# Altium footprint library 除臭.PcbLib: 14 footprints
Each footprint in its own frame and in the unit in brackets; x right, y up, seen from the top. Pads: shape width x height; smd on the part's side, far side on the other; paste and mask are expansions set on the pad; w line width, h text height; cw(c..) or ccw(c..) is an arc to the next point about the centre after c.
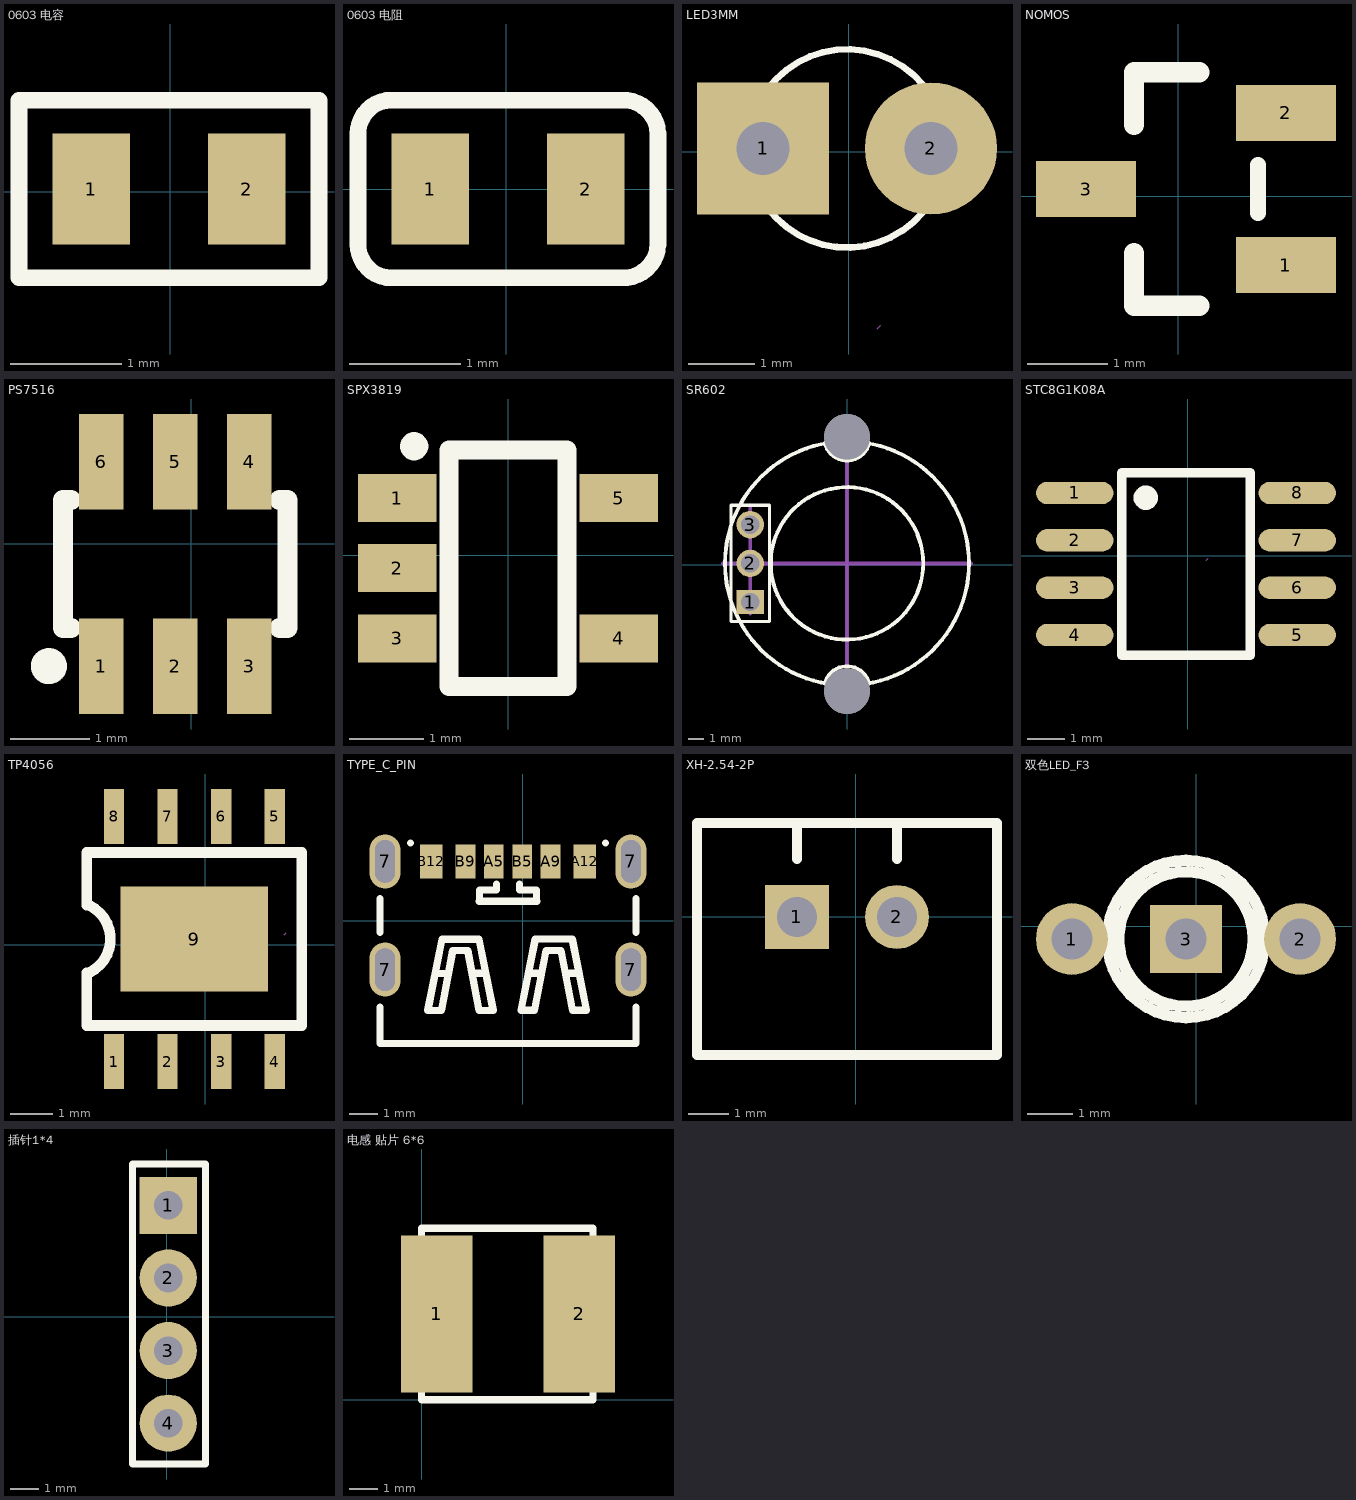
[diagram p0: the footprints below, top view; thin cyan lines are the x and y axes]

## 0603 电容 [mm]
pads (2):
  rect 0.7x1 smd: 1(-0.711,0.025) 2(0.689,0.025)
Top Overlay:
  lines w0.15: -1.361,-0.775 -1.361,0.825 1.339,0.825 1.339,-0.775 -1.361,-0.775
3D body "User Library-0603 SMD Capacitor.STEP": height 0.3, standoff 0, extent -0.789,-0.381 0.811,0.419

## 0603 电阻 [mm]
pads (2):
  rect 0.7x1 smd: 1(-0.686,0) 2(0.714,0)
Top Overlay:
  lines w0.15: 1.364,0.475 1.364,-0.5 cw(c1.052,-0.487) 1.039,-0.8 -1.036,-0.8 cw(c-1.036,-0.5) -1.336,-0.5 -1.336,0.5 cw(c-1.036,0.5) -1.036,0.8 1.039,0.8 cw(c1.052,0.487) 1.364,0.5
3D body "User Library-0603 SMD Resistor.STEP": height 0.3, standoff 0, extent -0.8,-0.4 0.8,0.4

## LED3MM [mm]
pads (2):
  rect 2x2 hole 0.8: 1(-1.297,0.052)
  round 2 hole 0.8: 2(1.243,0.052)
Top Overlay:
  circle w0.1: c-0.027,0.052 r1.5
Mechanical 15:
  lines w0.003: 0.43,-2.676 0.481,-2.625
3D body: height 7.05, standoff 6.95, extent -0.305,-0.254 0.284,0.345
3D body: height 12.5, standoff 9.5, extent -1.592,-1.626 1.397,1.369
3D body: height 7.05, standoff 6.95, extent -0.33,-0.218 0.258,0.381
3D body: height 7.2, standoff 7, extent -1.591,-1.623 1.397,1.372
3D body: height 11, standoff 7, extent -1.591,-1.623 1.397,1.372

## NOMOS [mm]
pads (3):
  rect 1.25x0.7 smd: 1(1.346,-0.862) 2(1.346,1.038) 3(-1.153,0.088)
Top Overlay:
  lines w0.2: 0.997,-0.212 0.997,0.388
  lines w0.254: -0.553,-0.712 -0.553,-1.372 0.262,-1.372 ; 0.262,1.548 -0.553,1.548 ; -0.553,0.888 -0.553,1.548 ; -0.553,0.888 -0.553,1.548 ; -0.553,0.888 -0.553,1.548
3D body "SOT-23-3.STEP": height 1.2, standoff 0, extent -1.3,-1.45 1.5,1.45

## PS7516 [mil]
pads (6):
  rect 22.2x47.7 smd: 1(-45,-61.15) 2(-8,-61.15) 3(29,-61.15) 4(29,40.85) 5(-8,40.85) 6(-45,40.85)
Top Overlay:
  circle w10: c-71,-61.15 r4
  lines w10: -60,-42.15 -64,-42.15 -64,21.85 -60,21.85 ; 44,-42.15 48,-42.15 48,21.85 44,21.85
3D body "User Library-SOT-23-6.STEP": height 42.61, standoff -0.39, extent -62.5,-58.5 47.5,37

## SPX3819 [mil]
pads (5):
  rect 41.8x25.6 smd: 1(-59.1,30.39) 2(-59.1,-7.01) 3(-59.1,-44.41) 4(59,-44.41) 5(59,30.39)
Top Overlay:
  circle w10: c-50.04,57.99 r2.5
  lines w10: -31.54,-70 -31.54,55.98 31.45,55.98 31.45,-70 -31.54,-70
3D body "User Library-SOT23-5.STEP": height 42.79, standoff -0.51, extent -55.25,-64.07 55,50.08

## SR602 [mm]
height 10
pads (5):
  rect 1.8x1.575 hole 1.2: 1(-6.35,-2.437)
  round 1.8 hole 1.2: 2(-6.35,0.103) 3(-6.35,2.643)
  round 3 hole 3 unplated: ""(0,-8.279) ""(0,8.402)
Top Overlay:
  circle w0.254: c0,0.103 r8
  circle w0.254: c0,0.103 r5
  lines w0.203: -7.62,-3.707 -7.62,-1.802 -7.62,3.913 -5.08,3.913 -5.08,-3.707 -7.62,-3.707
  lines w0.254: -1.456,-7.788 cw(c0,-8.147) 1.456,-7.788 ; -1.456,7.994 ccw(c0,8.353) 1.456,7.994
Mechanical 15:
  lines w0.254: -8.128,0.103 8.128,0.103 ; -6.35,-3.199 -6.35,3.913 ; 0,-6.755 0,6.961
3D body: height 18.5, standoff 8.5, extent -4.988,-4.997 5,4.997
3D body: height 13.5, standoff 8.5, extent -5,-5 5,5
3D body "User Library-HDR1x3.step": height 12.31, standoff 0.12, extent -7.62,-3.683 -5.08,3.937
3D body: height 11, standoff -1, extent -2.54,5.865 2.54,10.939
3D body: height 11, standoff -1, extent -2.54,-10.939 2.54,-5.865
3D body: height 9.5, standoff 8.5, extent -8.025,-8 7.975,8
3D body "RM254_3pin.STEP": height 6.02, standoff -3.1, extent -7.722,-3.734 -5.182,3.886

## STC8G1K08A [mm]
pads (8):
  oval 2.078x0.6 smd: 1(-3.025,1.69) 2(-3.025,0.42) 3(-3.025,-0.85) 4(-3.025,-2.12) 5(2.944,-2.12) 6(2.944,-0.85) 7(2.944,0.42) 8(2.944,1.69)
Top Overlay:
  circle w0.4: c-1.12,1.563 r0.127
  lines w0.254: -1.762,-2.667 -1.762,2.233 1.688,2.233 1.688,-2.667 -1.762,-2.667
Mechanical 15:
  lines w0.003: 0.506,-0.115 0.556,-0.065
3D body "SW3DPS-SO-8 (PIC12FXXX)-DEFAULT.STEP": height 1.55, standoff -0.05, extent -2.995,-2.704 2.995,2.196

## TP4056 [mm]
pads (9):
  rect 0.48x1.3 smd: 1(-2.167,-2.77) 2(-0.897,-2.77) 3(0.373,-2.77) 4(1.643,-2.77) 5(1.643,3.046) 6(0.373,3.046) 7(-0.897,3.046) 8(-2.167,3.046)
  rect 3.5x2.5 smd: 9(-0.262,0.138)
Top Overlay:
  lines w0.254: -2.811,-0.662 -2.811,-1.912 2.288,-1.912 2.288,2.188 -2.811,2.188 -2.811,0.938 ; -2.761,-0.662 ccw(c-3.137,0.138) -2.761,0.938
Mechanical 15:
  lines w0.003: 1.872,0.24 1.923,0.291
3D body "SW3DPS-SO-8 (PIC12FXXX)-DEFAULT.STEP": height 1.55, standoff -0.05, extent -2.741,-2.868 2.159,3.122

## TYPE_C_PIN [mm]
pads (10):
  oval 1.1x1.899 hole 0.7 slot 1.5 at 90 deg: 7(-4.838,-1.72) 7(-4.838,2.08) 7(3.802,-1.72) 7(3.802,2.08)
  rect 0.7x1.2 smd: A5(-1.018,2.08) A9(0.982,2.08) B5(-0.018,2.08) B9(-2.018,2.08)
  rect 0.8x1.2 smd: A12(2.182,2.08) B12(-3.218,2.08)
Top Overlay:
  lines w0.25: -5.018,-3.031 -5.018,-4.32 3.982,-4.32 3.982,-3.031 ; -5.018,-0.409 -5.018,0.769 ; -3.943,2.73 -3.942,2.73 ; -1.528,0.68 0.492,0.68 ; -1.518,0.68 -1.518,1.08 -0.918,1.08 -0.918,1.28 ; -0.118,1.28 -0.118,1.08 0.482,1.08 0.482,0.68 ; 2.906,2.73 2.907,2.73 ; 3.982,-0.409 3.982,0.769
  lines w0.254: -3.036,-1.853 -2.637,-1.853 ; -1.737,-1.852 -1.337,-1.852 ; 0.241,-1.848 0.64,-1.848 ; 1.54,-1.847 1.94,-1.847 ; -3.336,-3.153 -2.838,-0.651 -1.537,-0.651 -1.037,-3.153 -1.532,-3.153 -1.931,-1.053 -2.459,-1.053 -2.861,-3.153 -3.336,-3.153 ; -0.059,-3.148 0.439,-0.646 1.739,-0.646 2.24,-3.148 1.745,-3.148 1.346,-1.048 0.817,-1.048 0.416,-3.148 -0.059,-3.148
Mechanical 15:
  lines w0.003: 0.727,-0.606 0.777,-0.555
3D body: height 1.7, standoff 1.1, extent 1.588,-4.064 2.223,2.159
3D body: height 1.7, standoff 1.1, extent 0.724,-4.064 1.359,2.159
3D body: height 1.7, standoff 1.1, extent -0.14,-4.064 0.495,2.159
3D body: height 1.7, standoff 1.1, extent -1.003,-4.064 -0.368,2.159
3D body: height 1.7, standoff 1.1, extent -1.867,-4.064 -1.232,2.159
3D body: height 1.7, standoff 1.1, extent -2.73,-4.064 -2.095,2.159
3D body: height 1.6, standoff 1.2, extent -2.857,-4.191 2.095,1.587
3D body: height 2.9, standoff 0, extent -5.207,-4.445 -3.81,3.048
3D body: height 2.9, standoff 0, extent 3.048,-4.445 4.445,3.048
3D body: height 3, standoff 2.5, extent -5.207,-4.445 4.445,3.048
3D body: height 0.5, standoff 0, extent -5.207,-4.445 4.445,3.048

## XH-2.54-2P [mm]
pads (2):
  rect 1.6x1.6 hole 1: 1(-1.463,-0.004)
  round 1.6 hole 1: 2(1.037,-0.004)
Top Overlay:
  lines w0.254: -1.463,1.446 -1.463,2.345 ; 1.038,1.446 1.038,2.346 ; -3.962,-3.454 -3.962,2.346 3.537,2.346 3.537,-3.454 -3.962,-3.454
3D body: height 3, standoff 0, extent -1.562,1.88 1.105,2.464
3D body: height 7.2, standoff 0, extent 0.978,1.88 3.645,2.464
3D body: height 7.2, standoff 0, extent -4.046,-3.556 3.683,-2.972
3D body: height 5, standoff -3, extent -1.88,-0.178 -1.092,0.232
3D body: height 0.2, standoff 0.1, extent -4.064,-3.556 3.708,2.426
3D body: height 5, standoff -3, extent 0.635,-0.203 1.422,0.206
3D body: height 7.2, standoff 0, extent -4.039,1.88 -1.372,2.464
3D body: height 7.2, standoff 0, extent -4.064,-3.556 -3.48,2.438
3D body: height 7.2, standoff 0, extent 3.124,-3.556 3.708,2.464

## 双色LED_F3 [mm]
pads (3):
  round 1.6 hole 0.914: 1(-2.77,-0.289) 2(2.31,-0.289)
  rect 1.6x1.524 hole 0.914: 3(-0.23,-0.289)
Top Overlay:
  circle w0.254: c-0.23,-0.289 r1.75
  circle w0.254: c-0.23,-0.289 r1.5
Mechanical 15:
  lines w0.003: 0.379,-0.187 0.43,-0.136
3D body: height 11, standoff 7, extent -1.744,-1.8 1.244,1.194
3D body: height 7.2, standoff 7, extent -1.744,-1.8 1.244,1.194
3D body: height 12.5, standoff 9.5, extent -1.745,-1.803 1.245,1.191
3D body: height 7.05, standoff 6.95, extent 0.494,-0.528 1.083,0.071
3D body: height 7, standoff 7, extent -0.527,-0.305 0.07,0.294
3D body: height 7.05, standoff 6.95, extent -1.676,-0.635 -1.088,-0.036

## 插针1*4 [mm]
pads (4):
  rect 2x2 hole 1: 1(0.05,3.9)
  round 2 hole 1: 2(0.05,1.36) 3(0.05,-1.18) 4(0.05,-3.72)
Top Overlay:
  lines w0.254: -1.2,-5.15 -1.2,5.35 1.35,5.35 1.35,-5.15 -1.2,-5.15
3D body "CircuitWorks-HDR1X4.step": height 8.38, standoff -3.81, extent -1.22,-4.99 1.32,5.17

## 电感 贴片 6*6 [mm]
pads (2):
  rect 2.5x5.5 smd: 1(0.525,3.001) 2(5.525,3.001)
Top Overlay:
  lines w0.254: 0,0 6,0 6,6 0,6 0,0
3D body: height 4.5, standoff -0.01, extent 0.118,0.401 5.831,5.601